# Altium footprint library IPC-7355 QFP_Rect_80P_Side_L.PcbLib: 1 footprints
Each footprint in its own frame and in the unit in brackets; x right, y up, seen from the top. Pads: shape width x height; smd on the part's side, far side on the other; paste and mask are expansions set on the pad; w line width, h text height; cw(c..) or ccw(c..) is an arc to the next point about the centre after c.
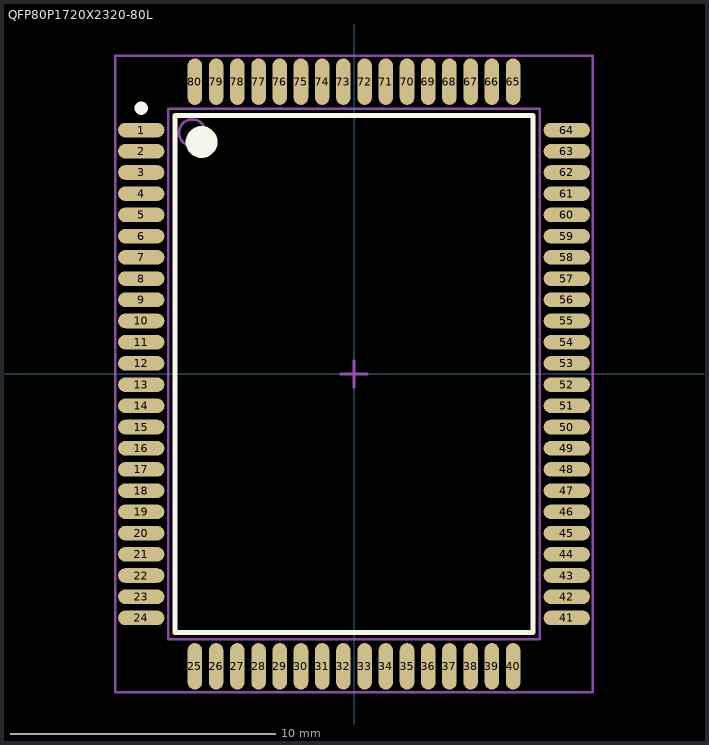
[diagram p0: the footprint, top view; thin cyan lines are the x and y axes]

## QFP80P1720X2320-80L [mm] "QFP, 80-Leads, Body 20x14mm, Pitch 0.8mm, IPC High Density"
height 2.45
pads (80):
  oval 1.75x0.55 smd: 1(-8.025,9.2) 2(-8.025,8.4) 3(-8.025,7.6) 4(-8.025,6.8) 5(-8.025,6) 6(-8.025,5.2) 7(-8.025,4.4) 8(-8.025,3.6) 9(-8.025,2.8) 10(-8.025,2) 11(-8.025,1.2) 12(-8.025,0.4) 13(-8.025,-0.4) 14(-8.025,-1.2) 15(-8.025,-2) 16(-8.025,-2.8) 17(-8.025,-3.6) 18(-8.025,-4.4) 19(-8.025,-5.2) 20(-8.025,-6) 21(-8.025,-6.8) 22(-8.025,-7.6) 23(-8.025,-8.4) 24(-8.025,-9.2) 41(8.025,-9.2) 42(8.025,-8.4) 43(8.025,-7.6) 44(8.025,-6.8) 45(8.025,-6) 46(8.025,-5.2) 47(8.025,-4.4) 48(8.025,-3.6) 49(8.025,-2.8) 50(8.025,-2) 51(8.025,-1.2) 52(8.025,-0.4) 53(8.025,0.4) 54(8.025,1.2) 55(8.025,2) 56(8.025,2.8) 57(8.025,3.6) 58(8.025,4.4) 59(8.025,5.2) 60(8.025,6) 61(8.025,6.8) 62(8.025,7.6) 63(8.025,8.4) 64(8.025,9.2)
  oval 0.55x1.75 smd: 25(-6,-11.025) 26(-5.2,-11.025) 27(-4.4,-11.025) 28(-3.6,-11.025) 29(-2.8,-11.025) 30(-2,-11.025) 31(-1.2,-11.025) 32(-0.4,-11.025) 33(0.4,-11.025) 34(1.2,-11.025) 35(2,-11.025) 36(2.8,-11.025) 37(3.6,-11.025) 38(4.4,-11.025) 39(5.2,-11.025) 40(6,-11.025) 65(6,11.025) 66(5.2,11.025) 67(4.4,11.025) 68(3.6,11.025) 69(2.8,11.025) 70(2,11.025) 71(1.2,11.025) 72(0.4,11.025) 73(-0.4,11.025) 74(-1.2,11.025) 75(-2,11.025) 76(-2.8,11.025) 77(-3.6,11.025) 78(-4.4,11.025) 79(-5.2,11.025) 80(-6,11.025)
Top Overlay:
  circle w0.6: c-5.75,8.75 r0.3
  circle w0.25: c-8.025,10.025 r0.125
  lines w0.2: -6.75,-9.75 6.75,-9.75 6.75,9.75 -6.75,9.75 -6.75,-9.75
Mechanical 13:
  circle w0.1: c-6.1,9.1 r0.5
  lines w0.1: -7,-10 7,-10 7,10 -7,10 -7,-10
Mechanical 15:
  lines w0.1: -0.5,0 0.5,0 ; 0,-0.5 0,0.5 ; -9,-12 9,-12 9,12 -9,12 -9,-12
3D body: height 2.45, standoff 0, extent -7,-10 7,10